# EAGLE library part LTC3708 (library PowerProducts)
LT-Spice library generated with : ltspice.ulp from: D:/Program Files (x86)/LTC/LTspiceIV/lib/sym/PowerProducts/LTC3711*.asy at 07.10.2012 18:30:32
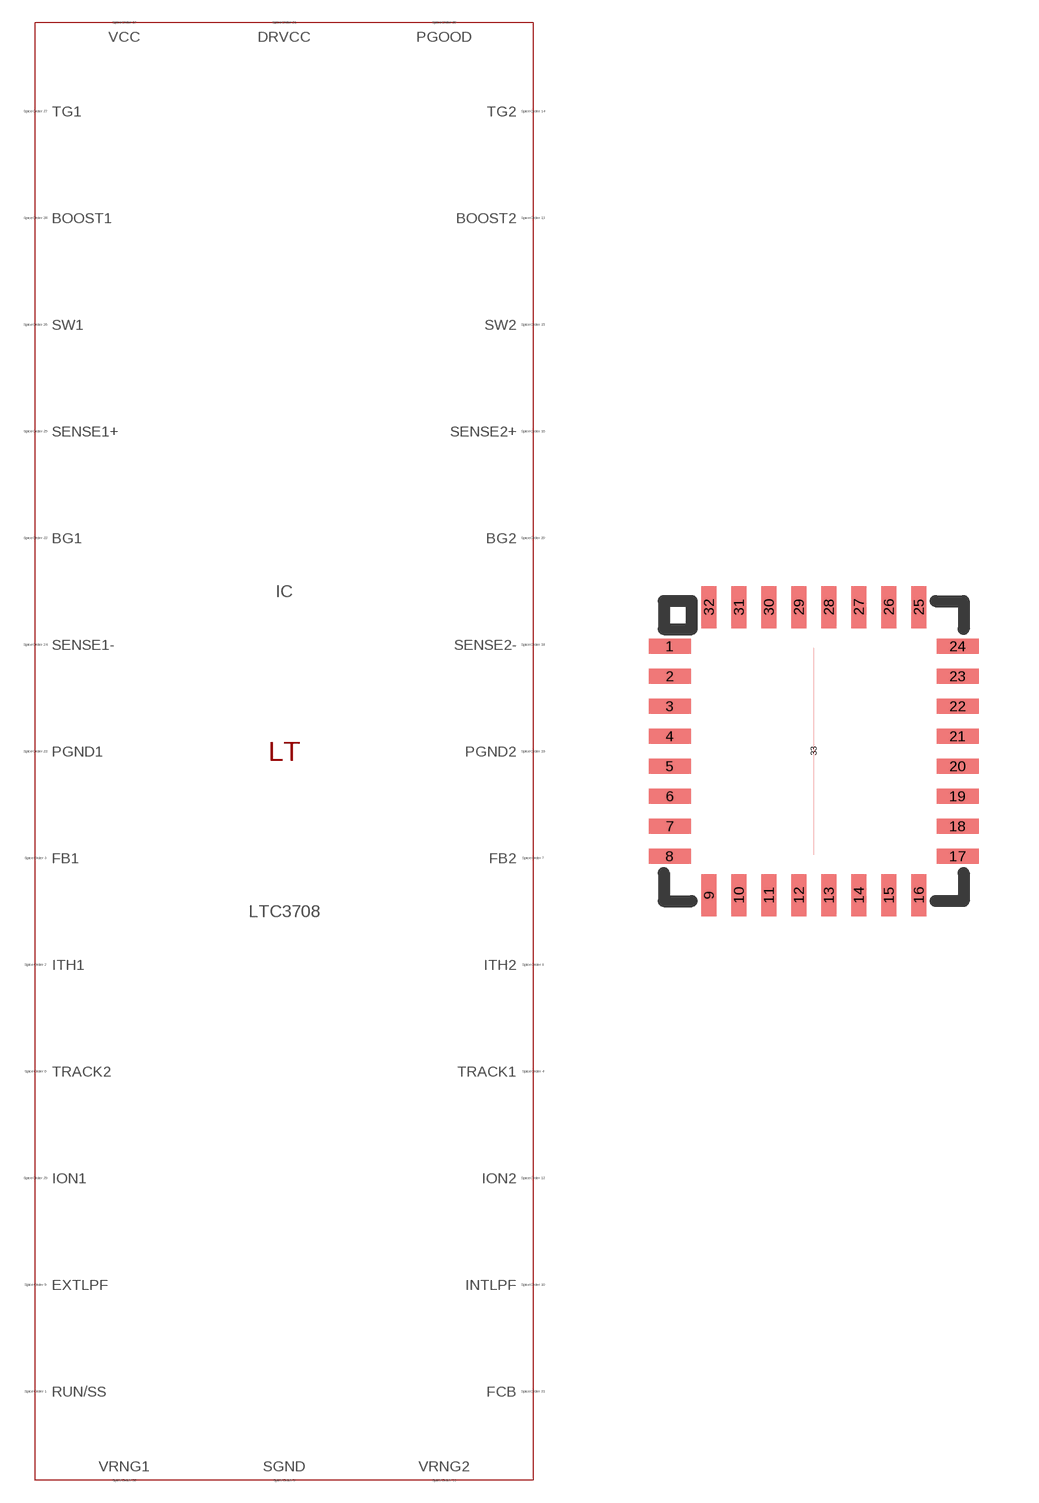
[diagram p288: symbol with the pads of QFN32(UH); footprint QFN32(UH)]

Designator prefix IC

## LTC3708 (SPICEMODEL: LTC3708.sub; SPICEPREFIX: X; VALUE2: LTC3708)  [QFN32(UH)]
1  RUN/SS  pas
2  ITH1  pas
3  FB1  pas
4  TRACK1  pas
5  SGND  pas
6  TRACK2  pas
7  FB2  pas
8  ITH2  pas
9  EXTLPF  pas
10  INTLPF  pas
11  VRNG2  pas
12  ION2  pas
13  BOOST2  pas
14  TG2  pas
15  SW2  pas
16  SENSE2+  pas
17  VCC  pas
18  SENSE2-  pas
19  PGND2  pas
20  BG2  pas
21  DRVCC  pas
22  BG1  pas
23  PGND1  pas
24  SENSE1-  pas
25  SENSE1+  pas
26  SW1  pas
27  TG1  pas
28  BOOST1  pas
29  ION1  pas
30  PGOOD  pas
31  FCB  pas
32  VRNG1  pas
33  SGND  pas

## Footprint QFN32(UH) (pad centres in mm)
Package generated from: QFN32(UH).asc (!PADS-POWERPCB-V5.0-BASIC! DESIGN DATABASE ASCII FILE 1.0) with :import-pads-powerpcb-v5.ulp Version 1.0.1 at 04.10.2012 14:11:25
smd 1.05 x 0.375: 1 -3.6,2.625; 2 -3.6,1.875; 3 -3.6,1.125; 4 -3.6,0.375; 5 -3.6,-0.375; 6 -3.6,-1.125; 7 -3.6,-1.875; 8 -3.6,-2.625; 17 3.6,-2.625; 18 3.6,-1.875; 19 3.6,-1.125; 20 3.6,-0.375; 21 3.6,0.375; 22 3.6,1.125; 23 3.6,1.875; 24 3.6,2.625
smd 0.375 x 1.05: 9 -2.625,-3.6; 10 -1.875,-3.6; 11 -1.125,-3.6; 12 -0.375,-3.6; 13 0.375,-3.6; 14 1.125,-3.6; 15 1.875,-3.6; 16 2.625,-3.6; 25 2.625,3.6; 26 1.875,3.6; 27 1.125,3.6; 28 0.375,3.6; 29 -0.375,3.6; 30 -1.125,3.6; 31 -1.875,3.6; 32 -2.625,3.6
smd 0 x 5.175: 33 0,0